# EAGLE library part M32C/85(100PIN) (library renesas_mcu)
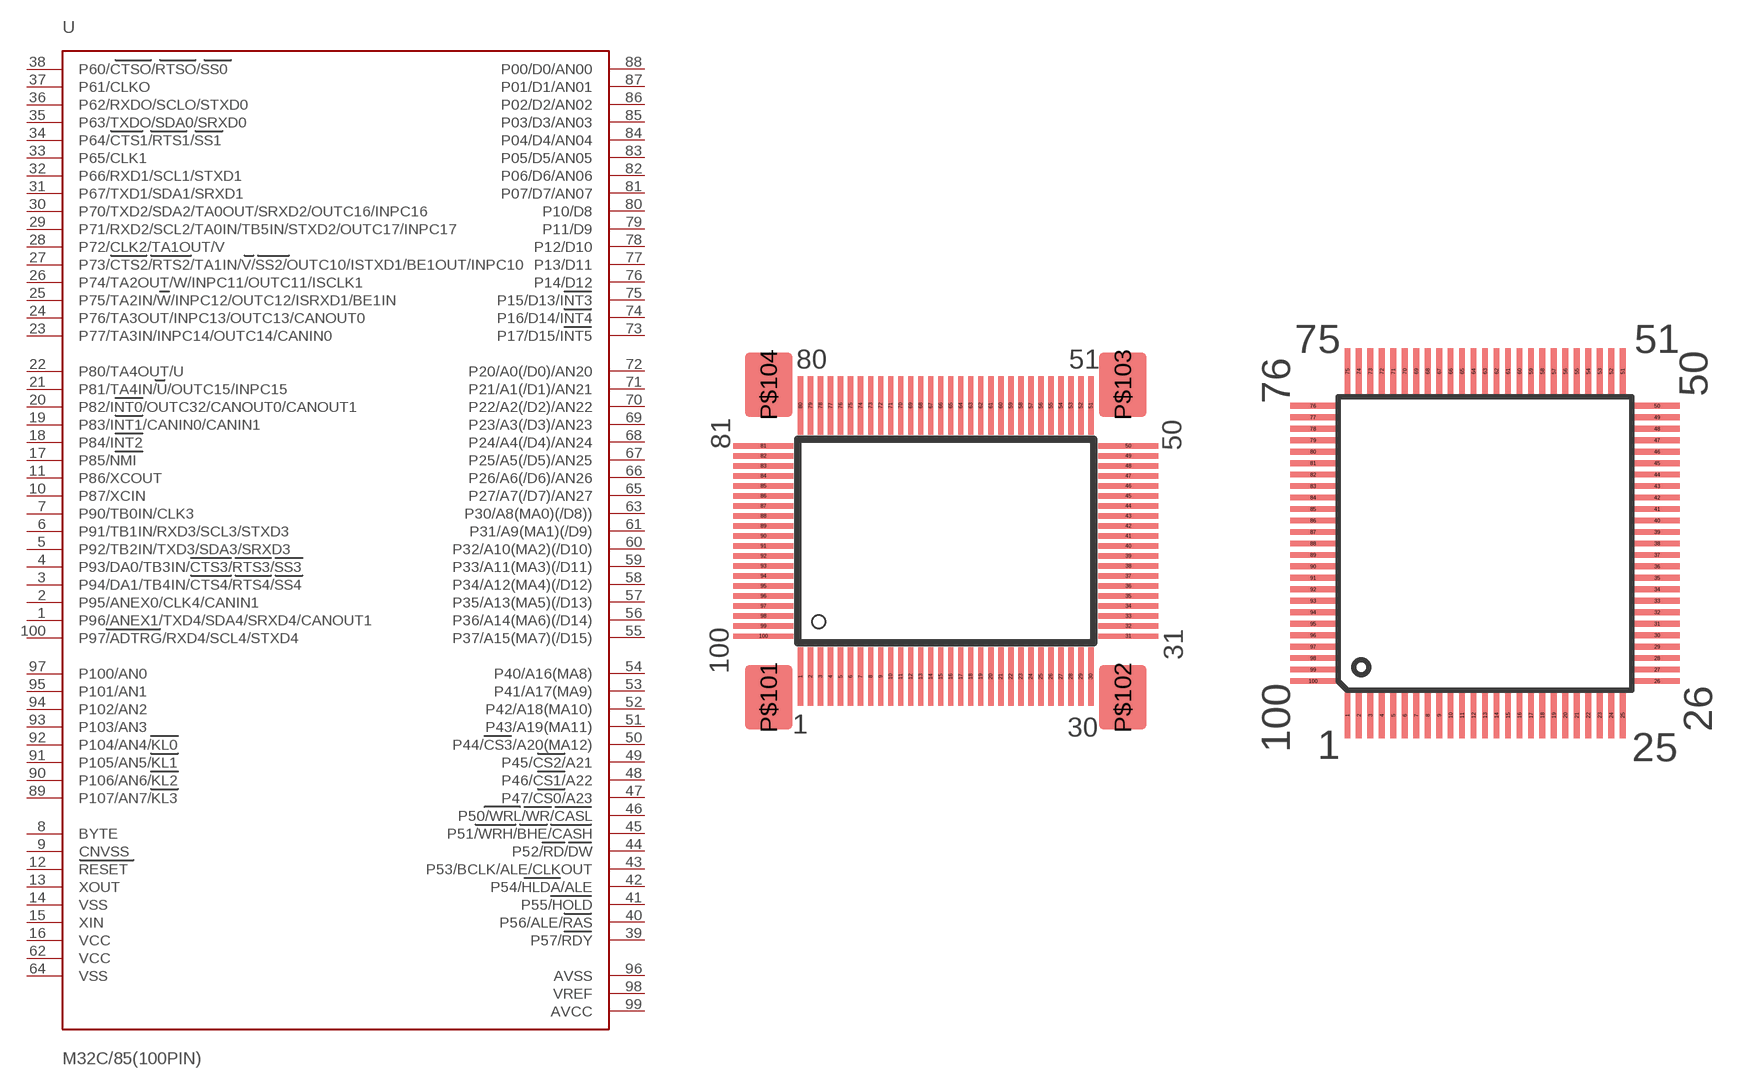
[diagram p41: symbol with the pads of 100P6S-A(SOCKET); footprints 100P6S-A(SOCKET), 100P6Q-A]

Designator prefix -

## M32C/85(100PIN)3  [100P6S-A(SOCKET)]
1  P96/ANEX1/TXD4/SDA4/SRXD4/CANOUT1
2  P95/ANEX0/CLK4/CANIN1
3  P94/DA1/TB4IN/CTS4/RTS4/SS4
4  P93/DA0/TB3IN/CTS3/RTS3/SS3
5  P92/TB2IN/TXD3/SDA3/SRXD3
6  P91/TB1IN/RXD3/SCL3/STXD3
7  P90/TB0IN/CLK3
8  BYTE  in
9  CNVSS  in
10  P87/XCIN
11  P86/XCOUT
12  RESET  in
13  XOUT  out
14  VSS  pwr
15  XIN  in
16  VCC  pwr
17  P85/NMI  in
18  P84/INT2
19  P83/INT1/CANIN0/CANIN1
20  P82/INT0/OUTC32/CANOUT0/CANOUT1
21  P81/TA4IN/U/OUTC15/INPC15
22  P80/TA4OUT/U
23  P77/TA3IN/INPC14/OUTC14/CANIN0
24  P76/TA3OUT/INPC13/OUTC13/CANOUT0
25  P75/TA2IN/W/INPC12/OUTC12/ISRXD1/BE1IN
26  P74/TA2OUT/W/INPC11/OUTC11/ISCLK1
27  P73/CTS2/RTS2/TA1IN/V/SS2/OUTC10/ISTXD1/BE1OUT/INPC10
28  P72/CLK2/TA1OUT/V
29  P71/RXD2/SCL2/TA0IN/TB5IN/STXD2/OUTC17/INPC17
30  P70/TXD2/SDA2/TA0OUT/SRXD2/OUTC16/INPC16
31  P67/TXD1/SDA1/SRXD1
32  P66/RXD1/SCL1/STXD1
33  P65/CLK1
34  P64/CTS1/RTS1/SS1
35  P63/TXDO/SDA0/SRXD0
36  P62/RXDO/SCLO/STXD0
37  P61/CLKO
38  P60/CTSO/RTSO/SS0
39  P57/RDY
40  P56/ALE/RAS
41  P55/HOLD
42  P54/HLDA/ALE
43  P53/BCLK/ALE/CLKOUT
44  P52/RD/DW
45  P51/WRH/BHE/CASH
46  P50/WRL/WR/CASL
47  P47/CS0/A23
48  P46/CS1/A22
49  P45/CS2/A21
50  P44/CS3/A20(MA12)
51  P43/A19(MA11)
52  P42/A18(MA10)
53  P41/A17(MA9)
54  P40/A16(MA8)
55  P37/A15(MA7)(/D15)
56  P36/A14(MA6)(/D14)
57  P35/A13(MA5)(/D13)
58  P34/A12(MA4)(/D12)
59  P33/A11(MA3)(/D11)
60  P32/A10(MA2)(/D10)
61  P31/A9(MA1)(/D9)
62  VCC  pwr
63  P30/A8(MA0)(/D8))
64  VSS  pwr
65  P27/A7(/D7)/AN27
66  P26/A6(/D6)/AN26
67  P25/A5(/D5)/AN25
68  P24/A4(/D4)/AN24
69  P23/A3(/D3)/AN23
70  P22/A2(/D2)/AN22
71  P21/A1(/D1)/AN21
72  P20/A0(/D0)/AN20
73  P17/D15/INT5
74  P16/D14/INT4
75  P15/D13/INT3
76  P14/D12
77  P13/D11
78  P12/D10
79  P11/D9
80  P10/D8
81  P07/D7/AN07
82  P06/D6/AN06
83  P05/D5/AN05
84  P04/D4/AN04
85  P03/D3/AN03
86  P02/D2/AN02
87  P01/D1/AN01
88  P00/D0/AN00
89  P107/AN7/KL3
90  P106/AN6/KL2
91  P105/AN5/KL1
92  P104/AN4/KL0
93  P103/AN3
94  P102/AN2
95  P101/AN1
96  AVSS  in
97  P100/AN0
98  VREF  in
99  AVCC  in
100  P97/ADTRG/RXD4/SCL4/STXD4

## M32C/85(100PIN)2  [100P6Q-A]
1  P94/DA1/TB4IN/CTS4/RTS4/SS4
2  P93/DA0/TB3IN/CTS3/RTS3/SS3
3  P92/TB2IN/TXD3/SDA3/SRXD3
4  P91/TB1IN/RXD3/SCL3/STXD3
5  P90/TB0IN/CLK3
6  BYTE  in
7  CNVSS  in
8  P87/XCIN
9  P86/XCOUT
10  RESET  in
11  XOUT  out
12  VSS  pwr
13  XIN  in
14  VCC  pwr
15  P85/NMI  in
16  P84/INT2
17  P83/INT1/CANIN0/CANIN1
18  P82/INT0/OUTC32/CANOUT0/CANOUT1
19  P81/TA4IN/U/OUTC15/INPC15
20  P80/TA4OUT/U
21  P77/TA3IN/INPC14/OUTC14/CANIN0
22  P76/TA3OUT/INPC13/OUTC13/CANOUT0
23  P75/TA2IN/W/INPC12/OUTC12/ISRXD1/BE1IN
24  P74/TA2OUT/W/INPC11/OUTC11/ISCLK1
25  P73/CTS2/RTS2/TA1IN/V/SS2/OUTC10/ISTXD1/BE1OUT/INPC10
26  P72/CLK2/TA1OUT/V
27  P71/RXD2/SCL2/TA0IN/TB5IN/STXD2/OUTC17/INPC17
28  P70/TXD2/SDA2/TA0OUT/SRXD2/OUTC16/INPC16
29  P67/TXD1/SDA1/SRXD1
30  P66/RXD1/SCL1/STXD1
31  P65/CLK1
32  P64/CTS1/RTS1/SS1
33  P63/TXDO/SDA0/SRXD0
34  P62/RXDO/SCLO/STXD0
35  P61/CLKO
36  P60/CTSO/RTSO/SS0
37  P57/RDY
38  P56/ALE/RAS
39  P55/HOLD
40  P54/HLDA/ALE
41  P53/BCLK/ALE/CLKOUT
42  P52/RD/DW
43  P51/WRH/BHE/CASH
44  P50/WRL/WR/CASL
45  P47/CS0/A23
46  P46/CS1/A22
47  P45/CS2/A21
48  P44/CS3/A20(MA12)
49  P43/A19(MA11)
50  P42/A18(MA10)
51  P41/A17(MA9)
52  P40/A16(MA8)
53  P37/A15(MA7)(/D15)
54  P36/A14(MA6)(/D14)
55  P35/A13(MA5)(/D13)
56  P34/A12(MA4)(/D12)
57  P33/A11(MA3)(/D11)
58  P32/A10(MA2)(/D10)
59  P31/A9(MA1)(/D9)
60  VCC  pwr
61  P30/A8(MA0)(/D8))
62  VSS  pwr
63  P27/A7(/D7)/AN27
64  P26/A6(/D6)/AN26
65  P25/A5(/D5)/AN25
66  P24/A4(/D4)/AN24
67  P23/A3(/D3)/AN23
68  P22/A2(/D2)/AN22
69  P21/A1(/D1)/AN21
70  P20/A0(/D0)/AN20
71  P17/D15/INT5
72  P16/D14/INT4
73  P15/D13/INT3
74  P14/D12
75  P13/D11
76  P12/D10
77  P11/D9
78  P10/D8
79  P07/D7/AN07
80  P06/D6/AN06
81  P05/D5/AN05
82  P04/D4/AN04
83  P03/D3/AN03
84  P02/D2/AN02
85  P01/D1/AN01
86  P00/D0/AN00
87  P107/AN7/KL3
88  P106/AN6/KL2
89  P105/AN5/KL1
90  P104/AN4/KL0
91  P103/AN3
92  P102/AN2
93  P101/AN1
94  AVSS  in
95  P100/AN0
96  VREF  in
97  AVCC  in
98  P97/ADTRG/RXD4/SCL4/STXD4
99  P96/ANEX1/TXD4/SDA4/SRXD4/CANOUT1
100  P95/ANEX0/CLK4/CANIN1

## M32C/85(100PIN)1  [100P6Q-A]
Pads as for 100P6Q-A

## Footprint 100P6S-A(SOCKET) (pad centres in mm)
smd 0.35 x 3.8: 1 -9.425,-8.8; 2 -8.775,-8.8; 3 -8.125,-8.8; 4 -7.475,-8.8; 5 -6.825,-8.8; 6 -6.175,-8.8; 7 -5.525,-8.8; 8 -4.875,-8.8; 9 -4.225,-8.8; 10 -3.575,-8.8; 11 -2.925,-8.8; 12 -2.275,-8.8; 13 -1.625,-8.8; 14 -0.975,-8.8; 15 -0.325,-8.8; 16 0.325,-8.8; 17 0.975,-8.8; 18 1.625,-8.8; 19 2.275,-8.8; 20 2.925,-8.8; 21 3.575,-8.8; 22 4.225,-8.8; 23 4.875,-8.8; 24 5.525,-8.8; 25 6.175,-8.8; 26 6.825,-8.8; 27 7.475,-8.8; 28 8.125,-8.8; 29 8.775,-8.8; 30 9.425,-8.8; 51 9.425,8.8; 52 8.775,8.8; 53 8.125,8.8; 54 7.475,8.8; 55 6.825,8.8; 56 6.175,8.8; 57 5.525,8.8; 58 4.875,8.8; 59 4.225,8.8; 60 3.575,8.8; 61 2.925,8.8; 62 2.275,8.8; 63 1.625,8.8; 64 0.975,8.8; 65 0.325,8.8; 66 -0.325,8.8; 67 -0.975,8.8; 68 -1.625,8.8; 69 -2.275,8.8; 70 -2.925,8.8; 71 -3.575,8.8; 72 -4.225,8.8; 73 -4.875,8.8; 74 -5.525,8.8; 75 -6.175,8.8; 76 -6.825,8.8; 77 -7.475,8.8; 78 -8.125,8.8; 79 -8.775,8.8; 80 -9.425,8.8
smd 3.9 x 0.35: 31 11.85,-6.175; 32 11.85,-5.525; 33 11.85,-4.875; 34 11.85,-4.225; 35 11.85,-3.575; 36 11.85,-2.925; 37 11.85,-2.275; 38 11.85,-1.625; 39 11.85,-0.975; 40 11.85,-0.325; 41 11.85,0.325; 42 11.85,0.975; 43 11.85,1.625; 44 11.85,2.275; 45 11.85,2.925; 46 11.85,3.575; 47 11.85,4.225; 48 11.85,4.875; 49 11.85,5.525; 50 11.85,6.175; 81 -11.85,6.175; 82 -11.85,5.525; 83 -11.85,4.875; 84 -11.85,4.225; 85 -11.85,3.575; 86 -11.85,2.925; 87 -11.85,2.275; 88 -11.85,1.625; 89 -11.85,0.975; 90 -11.85,0.325; 91 -11.85,-0.325; 92 -11.85,-0.975; 93 -11.85,-1.625; 94 -11.85,-2.275; 95 -11.85,-2.925; 96 -11.85,-3.575; 97 -11.85,-4.225; 98 -11.85,-4.875; 99 -11.85,-5.525; 100 -11.85,-6.175
smd 3.1 x 4.2: P$101 -11.5,-10.15; P$102 11.5,-10.15; P$103 11.5,10.15; P$104 -11.5,10.15

## Footprint 100P6Q-A (pad centres in mm)
smd 0.25 x 2: 1 -6,-7.5; 2 -5.5,-7.5; 3 -5,-7.5; 4 -4.5,-7.5; 5 -4,-7.5; 6 -3.5,-7.5; 7 -3,-7.5; 8 -2.5,-7.5; 9 -2,-7.5; 10 -1.5,-7.5; 11 -1,-7.5; 12 -0.5,-7.5; 13 0,-7.5; 14 0.5,-7.5; 15 1,-7.5; 16 1.5,-7.5; 17 2,-7.5; 18 2.5,-7.5; 19 3,-7.5; 20 3.5,-7.5; 21 4,-7.5; 22 4.5,-7.5; 23 5,-7.5; 24 5.5,-7.5; 25 6,-7.5; 51 6,7.5; 52 5.5,7.5; 53 5,7.5; 54 4.5,7.5; 55 4,7.5; 56 3.5,7.5; 57 3,7.5; 58 2.5,7.5; 59 2,7.5; 60 1.5,7.5; 61 1,7.5; 62 0.5,7.5; 63 0,7.5; 64 -0.5,7.5; 65 -1,7.5; 66 -1.5,7.5; 67 -2,7.5; 68 -2.5,7.5; 69 -3,7.5; 70 -3.5,7.5; 71 -4,7.5; 72 -4.5,7.5; 73 -5,7.5; 74 -5.5,7.5; 75 -6,7.5
smd 2 x 0.25: 26 7.5,-6; 27 7.5,-5.5; 28 7.5,-5; 29 7.5,-4.5; 30 7.5,-4; 31 7.5,-3.5; 32 7.5,-3; 33 7.5,-2.5; 34 7.5,-2; 35 7.5,-1.5; 36 7.5,-1; 37 7.5,-0.5; 38 7.5,0; 39 7.5,0.5; 40 7.5,1; 41 7.5,1.5; 42 7.5,2; 43 7.5,2.5; 44 7.5,3; 45 7.5,3.5; 46 7.5,4; 47 7.5,4.5; 48 7.5,5; 49 7.5,5.5; 50 7.5,6; 76 -7.5,6; 77 -7.5,5.5; 78 -7.5,5; 79 -7.5,4.5; 80 -7.5,4; 81 -7.5,3.5; 82 -7.5,3; 83 -7.5,2.5; 84 -7.5,2; 85 -7.5,1.5; 86 -7.5,1; 87 -7.5,0.5; 88 -7.5,0; 89 -7.5,-0.5; 90 -7.5,-1; 91 -7.5,-1.5; 92 -7.5,-2; 93 -7.5,-2.5; 94 -7.5,-3; 95 -7.5,-3.5; 96 -7.5,-4; 97 -7.5,-4.5; 98 -7.5,-5; 99 -7.5,-5.5; 100 -7.5,-6